# Altium schematic symbol library Transistors.SCHLIB: 9 symbols
Pins are listed as number, name and electrical type; pins without a type are passive.

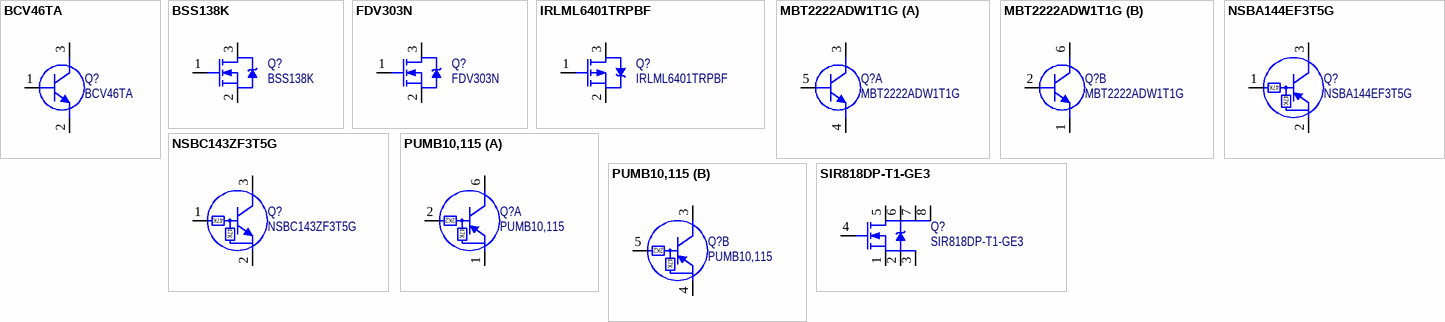
[diagram p0: symbols BCV46TA to SIR818DP-T1-GE3]

## BCV46TA
designator Q?
Transistor; PNP; Darlington; Ic=-500mA; Vce=-40V; Pmax=330mW; SOT23-3; Manufacturer: Diodes Incorporated; Manufacturer Part Number: BCV46TA; ComponentLink1Description: Supplier Info; ComponentLink1URL: https://www.digikey.com/en/products/detail/diodes-incorporated/BCV46TA/1767239?s=N4IgTCBcDaIEIGEBqAWAbAEQNICUC0AchiALoC%2BQA; ComponentLink2Description: Datasheet; ComponentLink2URL: https://www.diodes.com/assets/Datasheets/BCV26.pdf; Supplier 1: Digi-Key; Supplier Part Number 1: BCV46DKR-ND; Value: BCV46TA
footprint SOT23-3
pins: 1 B, 2 E, 3 C

## BSS138K
designator Q?
Transistor; MOSFET; N-Channel; Vds=50V; Id=220MA; SOT23-3; Manufacturer: ON Semiconductor; Manufacturer Part Number: BSS138K; Supplier 1: Digi-Key; Supplier Part Number 1: BSS138KDKR-ND; ComponentLink1Description: Supplier Info; ComponentLink1URL: https://www.digikey.com/en/products/detail/on-semiconductor/BSS138K/2410031?s=N4IgTCBcDaIEIGUEEYDMAOA0gEUwJQFoA5bEAXQF8g; ComponentLink2Description: Datasheet; ComponentLink2URL: https://www.onsemi.com/pdf/datasheet/bss138k-d.pdf; Value: BSS138K
footprint SOT23 (Footprint not found)
pins: 1 G, 2 S, 3 D

## FDV303N
designator Q?
Transistor; MOSFET; N-Channel; Vds=25V; Id=680MA; SOT23-3; Manufacturer: ON Semiconductor; Manufacturer Part Number: FDV303N; Supplier 1: Digi-Key; Supplier Part Number 1: FDV303NDKR-ND; ComponentLink1Description: Supplier Info; ComponentLink1URL: https://www.digikey.com/en/products/detail/on-semiconductor/FDV303N/458853?s=N4IgTCBcDaIGIBEBqBmADCgcgg0gJQFpsQBdAXyA; ComponentLink2Description: Datasheet; ComponentLink2URL: https://www.onsemi.com/pdf/datasheet/fdv303n-d.pdf; Value: FDV303N
footprint SOT23-3
pins: 1 G, 2 S, 3 D

## IRLML6401TRPBF
designator Q?
Transistor; MOSFET; P-Channel; Vds=-12V; Rdson=0.05Ohm; Id=-4.3A; SOT23-3; Manufacturer: Infineon; Manufacturer Part Number: IRLML6401TRPBF; ComponentLink1Description: Supplier Info; ComponentLink1URL: https://www.digikey.com/en/products/detail/on-semiconductor/BSS138K/2410031?s=N4IgTCBcDaIEIGUEEYDMAOA0gEUwJQFoA5bEAXQF8g; ComponentLink2Description: Datasheet; ComponentLink2URL: https://www.onsemi.com/pdf/datasheet/bss138k-d.pdf; Supplier 1: Digi-Key; Supplier Part Number 1: IRLML6401PBFDKR-ND; Value: IRLML6401TRPBF
footprint SOT23 (Footprint not found)
pins: 1 G, 2 S, 3 D

## MBT2222ADW1T1G
designator Q?
Transistor [Dual]; 2x NPN; General Purpose; Ic=600mA; Vce=40V; Pmax=150mW; SOT363-6 [TSSOP6, SC88-6]; Manufacturer: ON Semiconductor; Manufacturer Part Number: MBT2222ADW1T1G; ComponentLink1Description: Supplier Info; ComponentLink1URL: https://www.digikey.com/en/products/detail/on-semiconductor/MBT2222ADW1T1G/1477281?s=N4IgTCBcDaILICEAqZVgIIBEDqBGJuA4gPIDKmA0gEoC0AcpiALoC%2BQA; ComponentLink2Description: Datasheet; ComponentLink2URL: https://www.onsemi.com/pdf/datasheet/mbt2222adw1t1-d.pdf; Supplier 1: Digi-Key; Supplier Part Number 1: MBT2222ADW1T1GOSDKR-ND; Value: MBT2222ADW1T1G
footprint SC88-6
part A pins: 3 C, 4 E, 5 B
part B pins: 1 E, 2 B, 6 C

## NSBA144EF3T5G
designator Q?
Transistor; PNP; Pre-Biased; Ic=100mA; Pmax=254mW; SOT1123-3; Manufacturer: ON Semiconductor; Manufacturer Part Number: NSBA144EF3T5G; Supplier 1: Digi-Key; Supplier Part Number 1: NSBA144EF3T5G-ND; ComponentLink1Description: Supplier Info; ComponentLink1URL: https://www.digikey.com/en/products/detail/on-semiconductor/NSBA144EF3T5G/1961231?s=N4IgTCBcDaIHIGUBCBBAjAFgwUQGIGYAVAVgHEBaOAERAF0BfIA; ComponentLink2Description: Datasheet; ComponentLink2URL: https://www.onsemi.com/pdf/datasheet/dta144e-d.pdf; Value: NSBA144EF3T5G
footprint SOT-1123
pins: 1 B, 2 E, 3 C
text: 47K

## NSBC143ZF3T5G
designator Q?
Transistor; NPN; Pre-Biased; Ic=100mA; Pmax=254mW; SOT1123-3; Manufacturer: ON Semiconductor; Manufacturer Part Number: NSBC143ZF3T5G; Supplier 1: Digi-Key; Supplier Part Number 1: NSBC143ZF3T5G-ND; ComponentLink1Description: Supplier Info; ComponentLink1URL: https://www.digikey.com/en/products/detail/on-semiconductor/NSBC143ZF3T5G/2194377?s=N4IgTCBcDaIHIGUBCBhAjAFgMwC0BiWAKgKwDiAtHACIgC6AvkA; ComponentLink2Description: Datasheet; ComponentLink2URL: https://www.onsemi.com/pdf/datasheet/dtc143z-d.pdf; Value: NSBC143ZF3T5G
footprint SOT-1123
pins: 1 B, 2 E, 3 C
text: 47K

## PUMB10,115
designator Q?
Transistor [Dual]; 2x PNP; Pre-Biased; Vceo=-50V; Io=-100mA; Pmax=300mW; SOT363-6 [TSSOP6, SC88-6]; Manufacturer: Nexperia USA Inc.; Manufacturer Part Number: PUMB10,115; Supplier 1: Digi-Key; Supplier Part Number 1: 1727-6297-2-ND; ComponentLink1Description: Supplier Info; ComponentLink1URL: https://www.digikey.com/en/products/detail/nexperia-usa-inc/PUMB10-115/1157837?s=N4IgTCBcDaIIwHYwILQDYwE5VhQOQBEQBdAXyA; ComponentLink2Description: Datasheet; ComponentLink2URL: https://assets.nexperia.com/documents/data-sheet/PEMB10_PUMB10.pdf; Value: PUMB10,115
footprint SC88-6
part A pins: 1 E, 2 B, 6 C
part B pins: 3 C, 4 E, 5 B
part A text: 2K2; 47K
part B text: 2K2; 47K

## SIR818DP-T1-GE3
designator Q?
Transistor; MOSFET; N-Channel; Vds=30V; Id=50A; PowerPAK SO8; Manufacturer: Vishay Siliconix; Manufacturer Part Number: SIR818DP-T1-GE3; Supplier 1: Digi-Key; Supplier Part Number 1: SIR818DP-T1-GE3DKR-ND; ComponentLink1Description: Supplier Info; ComponentLink1URL: https://www.digikey.com/en/products/detail/vishay-siliconix/SIR818DP-T1-GE3/4496350?s=N4IgTCBcDaIMoEkBKAOAjCgIgBQLQBU1cBxAUQGZMBpJXAOUxAF0BfIA; ComponentLink2Description: Datasheet; ComponentLink2URL: https://www.vishay.com/docs/67846/sir818dp.pdf; Value: SIR818DP-T1-GE3
footprint PowerPak SO8
pins: 1 S, 2 S, 3 S, 4 G, 5 D, 6 D, 7 D, 8 D